# Altium integrated library Altium_Varistors.IntLib: 11 symbols
Pins are listed as number, name and electrical type; pins without a type are passive.

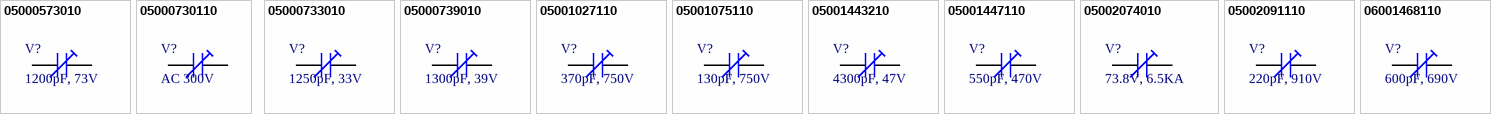
[diagram p0: symbols 05000573010 to 06001468110]

## 05000573010
designator V?, comment 1200pF, 73V
Varistors 1200pF 73V 10%; Manufacture  Name: OEM; Manufacture  SN: N.A; Tolerance: +/- 10%; Diameter: 5mm; Capacitance: 1200pF; ComponentLink1Description: Datasheet link; ComponentLink1URL: N/A; Voltage: 73V; ComponentLink2Description: Supplier 1 URL; ComponentLink2URL: N/A; ComponentLink3Description: Supplier 2 URL; ComponentLink3URL: N/A; ComponentLink4Description: Supplier 3 URL; ComponentLink4URL: N/A; Supplier 1 Name: Mouser; Supplier 1 SN: N/A; Supplier 1 URL: N/A; Supplier 2 Name: Digi-Key; Supplier 2 SN: N/A; Supplier 2 URL: N/A; Supplier 3 Name: thegioiic; Supplier 3 SN: N/A; Supplier 3 URL: https://www.thegioiic.com/tu-chong-set-varistor-5d330k-33v; Value: 1200pF, 73V
footprint Varistor
pins: 1, 2

## 05000730110
designator V?, comment AC 300V
Varistors 7D471K AC 300V; Manufacture  Name: Bourns; Tolerance: +/- 10%; Diameter: 7mm; Capacitance: N/A; ComponentLink1Description: Datasheet link; ComponentLink1URL: N/A; Voltage: 300V; Manufacture  SN: 7D471K; ComponentLink2Description: Supplier 1 URL; ComponentLink2URL: N/A; ComponentLink3Description: Supplier 2 URL; ComponentLink3URL: N/A; ComponentLink4Description: Supplier 3 URL; ComponentLink4URL: N/A; Supplier 1 Name: Mouser; Supplier 1 SN: N/A; Supplier 1 URL: N/A; Supplier 2 Name: Digi-Key; Supplier 2 SN: N/A; Supplier 2 URL: N/A; Supplier 3 Name: thegioiic; Supplier 3 SN: N/A; Supplier 3 URL: https://www.thegioiic.com/tu-chong-set-varistor-7d471k-300v; Value: AC 300V
footprint Varistor
pins: 1, 2

## 05000733010
designator V?, comment 1250pF, 33V
Varistors 1250pF 33V 10%; Manufacture  Name: Bourns; Manufacture  SN: MOV-07D330K; Tolerance: +/- 10%; Diameter: 7mm; Capacitance: 1250pF; ComponentLink1Description: Datasheet link; ComponentLink1URL: N/A; Voltage: 33V; ComponentLink2Description: Supplier 1 URL; ComponentLink2URL: N/A; ComponentLink3Description: Supplier 2 URL; ComponentLink3URL: N/A; ComponentLink4Description: Supplier 3 URL; ComponentLink4URL: N/A; Supplier 1 Name: Mouser; Supplier 1 SN: 652-MOV-07D330K; Supplier 1 URL: https://www.mouser.vn/ProductDetail/Bourns/MOV-07D330K?qs=lgttKnAd%252B2BGpv%252BoDzTZpA%3D%3D; Supplier 2 Name: Digi-Key; Supplier 2 SN: N/A; Supplier 2 URL: N/A; Supplier 3 Name: thegioiic; Supplier 3 SN: N/A; Supplier 3 URL: https://www.thegioiic.com/tu-chong-set-varistor-7d330k-33v; Value: 1250pF, 33V
footprint Varistor
pins: 1, 2

## 05000739010
designator V?, comment 1300pF, 39V
Varistors 1300pF 39V 10%; Manufacture  Name: Bourns; Manufacture  SN: MOV-07D390K; Tolerance: +/- 10%; Diameter: 7mm; Capacitance: 1300pF; ComponentLink1Description: Datasheet link; ComponentLink1URL: N/A; Voltage: 39V; ComponentLink2Description: Supplier 1 URL; ComponentLink2URL: N/A; ComponentLink3Description: Supplier 2 URL; ComponentLink3URL: N/A; ComponentLink4Description: Supplier 3 URL; ComponentLink4URL: N/A; Supplier 1 Name: Mouser; Supplier 1 SN: 652-MOV-07D390K; Supplier 1 URL: https://www.mouser.vn/ProductDetail/Bourns/MOV-07D390K?qs=lgttKnAd%252B2CZPGi9RkyYZg%3D%3D; Supplier 2 Name: Digi-Key; Supplier 2 SN: N/A; Supplier 2 URL: N/A; Supplier 3 Name: thegioiic; Supplier 3 SN: N/A; Supplier 3 URL: https://www.thegioiic.com/tu-chong-set-varistor-07d390k-39v; Value: 1300pF, 39V
footprint Varistor
pins: 1, 2

## 05001027110
designator V?, comment 370pF, 750V
Varistors 370pF 270V 10%; Manufacture  Name: Bourns; Manufacture  SN: MOV-10D271K; Tolerance: +/- 10%; Diameter: 10mm; Capacitance: 370pF; ComponentLink1Description: Datasheet link; ComponentLink1URL: N/A; Voltage: 270V; ComponentLink2Description: Supplier 1 URL; ComponentLink2URL: N/A; ComponentLink3Description: Supplier 2 URL; ComponentLink3URL: N/A; ComponentLink4Description: Supplier 3 URL; ComponentLink4URL: N/A; Supplier 1 Name: Mouser; Supplier 1 SN: 652-MOV-10D271K; Supplier 1 URL: https://www.mouser.vn/ProductDetail/Bourns/MOV-10D271K?qs=lgttKnAd%252B2BAn0GLoYT8og%3D%3D; Supplier 2 Name: Digi-Key; Supplier 2 SN: N/A; Supplier 2 URL: N/A; Supplier 3 Name: thegioiic; Supplier 3 SN: N/A; Supplier 3 URL: https://www.thegioiic.com/tu-chong-set-varistor-10d271k-270v; Value: 370pF, 750V
footprint Varistor
pins: 1, 2

## 05001075110
designator V?, comment 130pF, 750V
Varistors 130pF 750V 10%; Manufacture  Name: Bourns; Manufacture  SN: MOV-10D751K; Tolerance: +/- 10%; Diameter: 10mm; Capacitance: 130pF; ComponentLink1Description: Datasheet link; ComponentLink1URL: N/A; Voltage: 750V; ComponentLink2Description: Supplier 1 URL; ComponentLink2URL: N/A; ComponentLink3Description: Supplier 2 URL; ComponentLink3URL: N/A; ComponentLink4Description: Supplier 3 URL; ComponentLink4URL: N/A; Supplier 1 Name: Mouser; Supplier 1 SN: 652-MOV-10D751K; Supplier 1 URL: https://www.mouser.vn/ProductDetail/Bourns/MOV-10D751K?qs=lgttKnAd%252B2BaTb%252BMoHcHPA%3D%3D; Supplier 2 Name: Digi-Key; Supplier 2 SN: N/A; Supplier 2 URL: N/A; Supplier 3 Name: thegioiic; Supplier 3 SN: N/A; Supplier 3 URL: https://www.thegioiic.com/tu-chong-set-varistor-10d751k-750v; Value: 130pF, 750V
footprint Varistor
pins: 1, 2

## 05001443210
designator V?, comment 4300pF, 47V
Varistors 4300pF 47V 10%; Manufacture  Name: Bourns; Manufacture  SN: MOV-14D471K; Tolerance: +/- 10%; Diameter: 14mm; Capacitance: 4300pF; ComponentLink1Description: Datasheet link; ComponentLink1URL: N/A; Voltage: 47V; ComponentLink2Description: Supplier 1 URL; ComponentLink2URL: N/A; ComponentLink3Description: Supplier 2 URL; ComponentLink3URL: N/A; ComponentLink4Description: Supplier 3 URL; ComponentLink4URL: N/A; Supplier 1 Name: Mouser; Supplier 1 SN: 652-MOV-14D471K; Supplier 1 URL: https://www.mouser.vn/ProductDetail/Bourns/MOV-14D471K?qs=CQ3B1E%252BbPs2OPA4dknC3OA%3D%3D; Supplier 2 Name: Digi-Key; Supplier 2 SN: N/A; Supplier 2 URL: N/A; Supplier 3 Name: thegioiic; Supplier 3 SN: N/A; Supplier 3 URL: https://www.thegioiic.com/tu-chong-set-varistor-14d470k-47v; Value: 4300pF, 47V
footprint Varistor
pins: 1, 2

## 05001447110
designator V?, comment 550pF, 470V
Varistors 550pF 470V 10%; Manufacture  Name: Bourns; Manufacture  SN: MOV-14D471K; Tolerance: +/- 10%; Diameter: 14mm; Capacitance: 550pF; ComponentLink1Description: Datasheet link; ComponentLink1URL: N/A; Voltage: 470V; ComponentLink2Description: Supplier 1 URL; ComponentLink2URL: N/A; ComponentLink3Description: Supplier 2 URL; ComponentLink3URL: N/A; ComponentLink4Description: Supplier 3 URL; ComponentLink4URL: N/A; Supplier 1 Name: Mouser; Supplier 1 SN: 652-MOV-14D471K; Supplier 1 URL: https://www.mouser.vn/ProductDetail/Bourns/MOV-14D471K?qs=CQ3B1E%252BbPs2OPA4dknC3OA%3D%3D; Supplier 2 Name: Digi-Key; Supplier 2 SN: N/A; Supplier 2 URL: N/A; Supplier 3 Name: thegioiic; Supplier 3 SN: N/A; Supplier 3 URL: https://www.thegioiic.com/tu-chong-set-varistor-14d471k-470v; Value: 550pF, 470V
footprint Varistor
pins: 1, 2

## 05002074010
designator V?, comment 73.8V, 6.5KA
Varistor 73.8V 6.5KA 10%; Manufacture  Name: RoHS; Manufacture  SN: MOV-S20K50; Tolerance: +/- 10%; Diameter: 20mm; Capacitance: N/A; ComponentLink1Description: Datasheet link; ComponentLink1URL: N/A; Voltage: 73.8V; ComponentLink2Description: Supplier 1 URL; ComponentLink2URL: N/A; ComponentLink3Description: Supplier 2 URL; ComponentLink3URL: N/A; ComponentLink4Description: Supplier 3 URL; ComponentLink4URL: N/A; Supplier 1 Name: Mouser; Supplier 1 SN: N/A; Supplier 1 URL: N/A; Supplier 2 Name: Digi-Key; Supplier 2 SN: N/A; Supplier 2 URL: N/A; Supplier 3 Name: thegioiic; Supplier 3 SN: N/A; Supplier 3 URL: https://www.thegioiic.com/tu-chong-set-varistor-s20k50-73-8v; Value: 73.8V, 6.5KA
footprint Varistor
pins: 1, 2

## 05002091110
designator V?, comment 220pF, 910V
Varistors 220pF 910V; Manufacture  Name: Bourns; Manufacture  SN: MOV-07D330K; Tolerance: +/- 10%; Diameter: 10mm; Capacitance: 220pF; ComponentLink1Description: Datasheet link; ComponentLink1URL: N/A; Voltage: 910V; ComponentLink2Description: Supplier 1 URL; ComponentLink2URL: N/A; ComponentLink3Description: Supplier 2 URL; ComponentLink3URL: N/A; ComponentLink4Description: Supplier 3 URL; ComponentLink4URL: N/A; Supplier 1 Name: Mouser; Supplier 1 SN: 652-MOV-07D330K; Supplier 1 URL: https://www.mouser.vn/ProductDetail/Bourns/MOV-07D330K?qs=lgttKnAd%252B2BGpv%252BoDzTZpA%3D%3D; Supplier 2 Name: Digi-Key; Supplier 2 SN: N/A; Supplier 2 URL: N/A; Supplier 3 Name: thegioiic; Supplier 3 SN: N/A; Supplier 3 URL: https://www.thegioiic.com/tu-chong-set-varistor-20d911k-910v; Value: 220pF, 910V
footprint Varistor
pins: 1, 2

## 06001468110
designator V?, comment 600pF, 690V
Varistors 600pF 680V 10%; Manufacture  Name: Bourns; Manufacture  SN: MOV-420L40; Tolerance: +/- 10%; Diameter: 14mm; Capacitance: 600pF; ComponentLink1Description: Datasheet link; ComponentLink1URL: N/A; Voltage: 680V; ComponentLink2Description: Supplier 1 URL; ComponentLink2URL: N/A; ComponentLink3Description: Supplier 2 URL; ComponentLink3URL: N/A; ComponentLink4Description: Supplier 3 URL; ComponentLink4URL: N/A; Supplier 1 Name: Mouser; Supplier 1 SN: N/A; Supplier 1 URL: N/A; Supplier 2 Name: Digi-Key; Supplier 2 SN: N/A; Supplier 2 URL: N/A; Supplier 3 Name: thegioiic; Supplier 3 SN: N/A; Supplier 3 URL: https://www.thegioiic.com/tu-chong-set-varistor-420l40-680v; Value: 600pF, 690V
footprint Varistor
pins: 1, 2